# Altium footprint library S8050.PcbLib: 1 footprints
Each footprint in its own frame and in the unit in brackets; x right, y up, seen from the top. Pads: shape width x height; smd on the part's side, far side on the other; paste and mask are expansions set on the pad; w line width, h text height; cw(c..) or ccw(c..) is an arc to the next point about the centre after c.
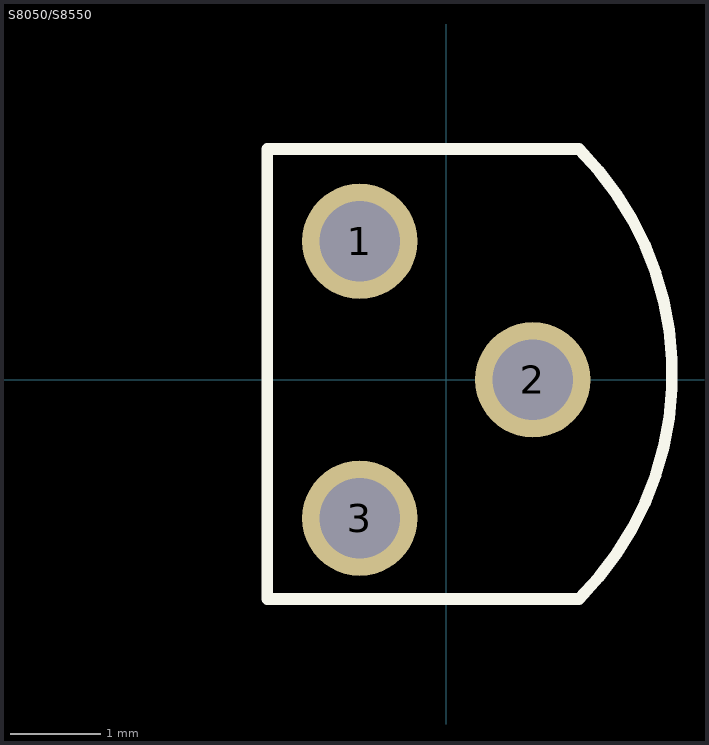
[diagram p0: the footprint, top view; thin cyan lines are the x and y axes]

## S8050/S8550 [mil] "插件三极管"
pads (3):
  round 50 hole 35: 1(-37.5,60) 2(37.5,0) 3(-37.5,-60)
Top Overlay:
  lines w5: -77.5,-95 -77.5,100 37.5,100 57.5,100 cw(c-40,2.5) 57.5,-95 -77.5,-95